# EAGLE library part TPS61089RNRT (library ruark2)
Boost Switching Regulator IC Positive Adjustable 4.5V 1 Output 7A 11-VFQFN
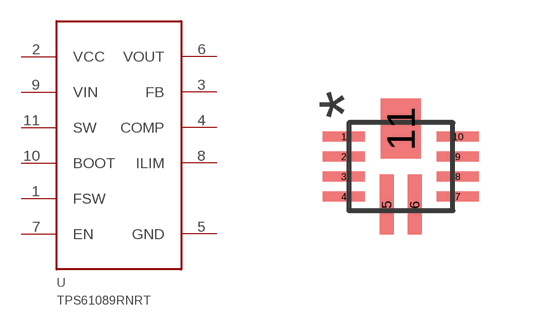
[diagram p45: symbol with the pads of TPS61089RNRT; footprint TPS61089RNRT]

Designator prefix U

## TPS61089RNRT (PARTNO: 296-46242-1-ND)  [TPS61089RNRT]
1  FSW
2  VCC
3  FB
4  COMP
5  GND
6  VOUT
7  EN
8  ILIM
9  VIN
10  BOOT
11  SW

## Footprint TPS61089RNRT (pad centres in mm)
smd 1.05 x 0.25: 1 -1.425,0.75; 2 -1.425,0.25; 3 -1.425,-0.25; 4 -1.425,-0.75; 7 1.425,-0.75; 8 1.425,-0.25; 9 1.425,0.25; 10 1.425,0.75
smd 0.35 x 1.5: 5 -0.35,-0.95; 6 0.35,-0.95
smd 1 x 1.5: 11 0,0.95